# Altium integrated library Altium_WCAP-CSGP (rev19a).IntLib: 938 symbols (part 8 of 16)
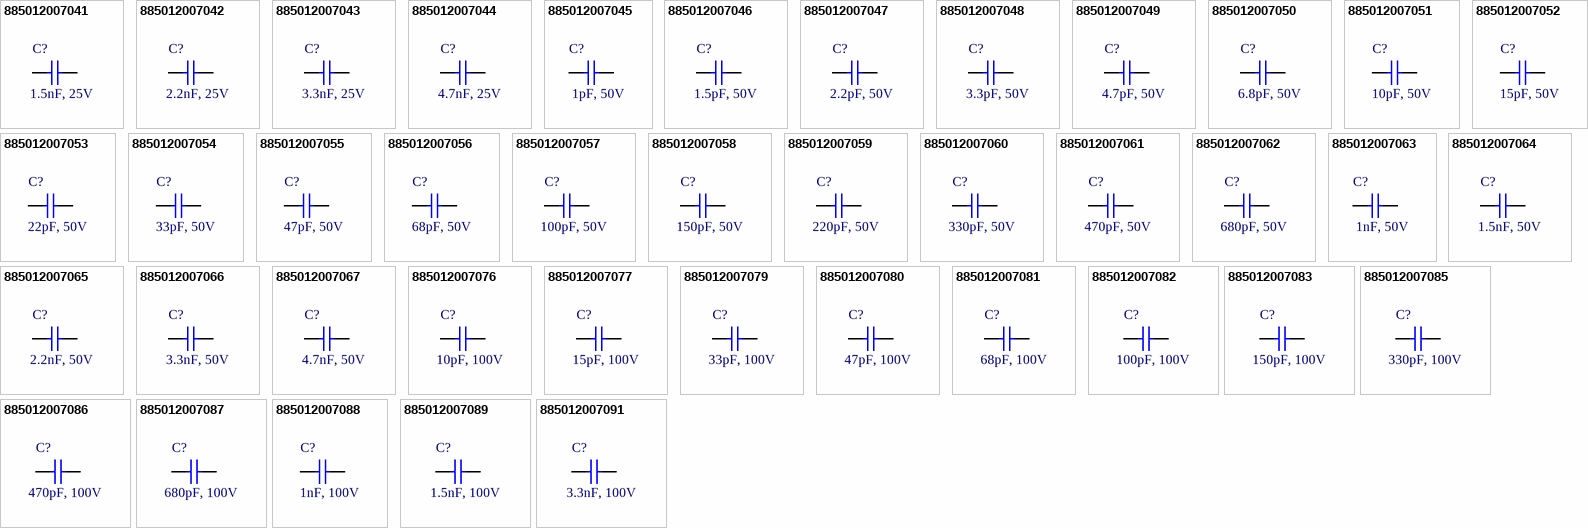
[diagram p34: symbols 885012007041 to 885012007091]

## 885012007056
designator C?, comment 68pF, 50V
WCAP-CSGP General Purpose Ceramic Capacitors, size 0805, 68pF, +/-5%, 50VDC; Part Number: 885012007056; Isolation Resistance: >=10GOhm; Ceramic Type: NP0; Dissipation Factor: Q>=1000; Technical Reference: NP00805680J050DFCT10000; ComponentLink1Description: Manufacturer; ComponentLink1URL: http://www.we-online.de; ComponentLink2Description: Datasheet; ComponentLink2URL: https://katalog.we-online.com/pbs/datasheet/885012007056.pdf; Operating Temperature: -55 to +125degC; Packaging: Tape and Reel; Publisher: Wurth Elektronik; Rated Voltage: 50VDC; Published Date: August 2019; Capacitance Tolerance: +/-5%; Height: 0.6mm +/-0.10mm; Mounting Technology: SMD; Size: 0805; Capacitance: 68pF
footprint WCAP-CSGP_0805_H=0.6mm_Wave
footprint WCAP-CSGP_0805_H=0.6mm_Reflow
pins: 1, 2

## 885012007057
designator C?, comment 100pF, 50V
WCAP-CSGP General Purpose Ceramic Capacitors, size 0805, 100pF, +/-5%, 50VDC; Part Number: 885012007057; Isolation Resistance: >=10GOhm; Ceramic Type: NP0; Dissipation Factor: Q>=1000; Technical Reference: NP00805101J050DFCT10000; ComponentLink1Description: Manufacturer; ComponentLink1URL: http://www.we-online.de; ComponentLink2Description: Datasheet; ComponentLink2URL: https://katalog.we-online.com/pbs/datasheet/885012007057.pdf; Operating Temperature: -55 to +125degC; Packaging: Tape and Reel; Publisher: Wurth Elektronik; Rated Voltage: 50VDC; Published Date: August 2019; Capacitance Tolerance: +/-5%; Height: 0.6mm +/-0.10mm; Mounting Technology: SMD; Size: 0805; Capacitance: 100pF
footprint WCAP-CSGP_0805_H=0.6mm_Wave
footprint WCAP-CSGP_0805_H=0.6mm_Reflow
pins: 1, 2

## 885012007058
designator C?, comment 150pF, 50V
WCAP-CSGP General Purpose Ceramic Capacitors, size 0805, 150pF, +/-5%, 50VDC; Part Number: 885012007058; Isolation Resistance: >=10GOhm; Ceramic Type: NP0; Dissipation Factor: Q>=1000; Technical Reference: NP00805151J050DFCT10000; ComponentLink1Description: Manufacturer; ComponentLink1URL: http://www.we-online.de; ComponentLink2Description: Datasheet; ComponentLink2URL: https://katalog.we-online.com/pbs/datasheet/885012007058.pdf; Operating Temperature: -55 to +125degC; Packaging: Tape and Reel; Publisher: Wurth Elektronik; Rated Voltage: 50VDC; Published Date: August 2019; Capacitance Tolerance: +/-5%; Height: 0.6mm +/-0.10mm; Mounting Technology: SMD; Size: 0805; Capacitance: 150pF
footprint WCAP-CSGP_0805_H=0.6mm_Wave
footprint WCAP-CSGP_0805_H=0.6mm_Reflow
pins: 1, 2

## 885012007059
designator C?, comment 220pF, 50V
WCAP-CSGP General Purpose Ceramic Capacitors, size 0805, 220pF, +/-5%, 50VDC; Part Number: 885012007059; Isolation Resistance: >=10GOhm; Ceramic Type: NP0; Dissipation Factor: Q>=1000; Technical Reference: NP00805221J050DFCT10000; ComponentLink1Description: Manufacturer; ComponentLink1URL: http://www.we-online.de; ComponentLink2Description: Datasheet; ComponentLink2URL: https://katalog.we-online.com/pbs/datasheet/885012007059.pdf; Operating Temperature: -55 to +125degC; Packaging: Tape and Reel; Publisher: Wurth Elektronik; Rated Voltage: 50VDC; Published Date: August 2019; Capacitance Tolerance: +/-5%; Height: 0.6mm +/-0.10mm; Mounting Technology: SMD; Size: 0805; Capacitance: 220pF
footprint WCAP-CSGP_0805_H=0.6mm_Wave
footprint WCAP-CSGP_0805_H=0.6mm_Reflow
pins: 1, 2

## 885012007060
designator C?, comment 330pF, 50V
WCAP-CSGP General Purpose Ceramic Capacitors, size 0805, 330pF, +/-5%, 50VDC; Part Number: 885012007060; Isolation Resistance: >=10GOhm; Ceramic Type: NP0; Dissipation Factor: Q>=1000; Technical Reference: NP00805331J050DFCT10000; ComponentLink1Description: Manufacturer; ComponentLink1URL: http://www.we-online.de; ComponentLink2Description: Datasheet; ComponentLink2URL: https://katalog.we-online.com/pbs/datasheet/885012007060.pdf; Operating Temperature: -55 to +125degC; Packaging: Tape and Reel; Publisher: Wurth Elektronik; Rated Voltage: 50VDC; Published Date: August 2019; Capacitance Tolerance: +/-5%; Height: 0.6mm +/-0.10mm; Mounting Technology: SMD; Size: 0805; Capacitance: 330pF
footprint WCAP-CSGP_0805_H=0.6mm_Wave
footprint WCAP-CSGP_0805_H=0.6mm_Reflow
pins: 1, 2

## 885012007061
designator C?, comment 470pF, 50V
WCAP-CSGP General Purpose Ceramic Capacitors, size 0805, 470pF, +/-5%, 50VDC; Part Number: 885012007061; Isolation Resistance: >=10GOhm; Ceramic Type: NP0; Dissipation Factor: Q>=1000; Technical Reference: NP00805471J050DFCT10000; ComponentLink1Description: Manufacturer; ComponentLink1URL: http://www.we-online.de; ComponentLink2Description: Datasheet; ComponentLink2URL: https://katalog.we-online.com/pbs/datasheet/885012007061.pdf; Operating Temperature: -55 to +125degC; Packaging: Tape and Reel; Publisher: Wurth Elektronik; Rated Voltage: 50VDC; Published Date: August 2019; Capacitance Tolerance: +/-5%; Height: 0.8mm +/-0.10mm; Mounting Technology: SMD; Size: 0805; Capacitance: 470pF
footprint WCAP-CSGP_0805_H=0.8mm_Wave
footprint WCAP-CSGP_0805_H=0.8mm_Reflow
pins: 1, 2

## 885012007062
designator C?, comment 680pF, 50V
WCAP-CSGP General Purpose Ceramic Capacitors, size 0805, 680pF, +/-5%, 50VDC; Part Number: 885012007062; Isolation Resistance: >=10GOhm; Ceramic Type: NP0; Dissipation Factor: Q>=1000; Technical Reference: NP00805681J050DFCT10000; ComponentLink1Description: Manufacturer; ComponentLink1URL: http://www.we-online.de; ComponentLink2Description: Datasheet; ComponentLink2URL: https://katalog.we-online.com/pbs/datasheet/885012007062.pdf; Operating Temperature: -55 to +125degC; Packaging: Tape and Reel; Publisher: Wurth Elektronik; Rated Voltage: 50VDC; Published Date: August 2019; Capacitance Tolerance: +/-5%; Height: 0.8mm +/-0.10mm; Mounting Technology: SMD; Size: 0805; Capacitance: 680pF
footprint WCAP-CSGP_0805_H=0.8mm_Wave
footprint WCAP-CSGP_0805_H=0.8mm_Reflow
pins: 1, 2

## 885012007063
designator C?, comment 1nF, 50V
WCAP-CSGP General Purpose Ceramic Capacitors, size 0805, 1nF, +/-5%, 50VDC; Part Number: 885012007063; Isolation Resistance: >=10GOhm; Ceramic Type: NP0; Dissipation Factor: Q>=1000; Technical Reference: NP00805102J050DFCT10000; ComponentLink1Description: Manufacturer; ComponentLink1URL: http://www.we-online.de; ComponentLink2Description: Datasheet; ComponentLink2URL: https://katalog.we-online.com/pbs/datasheet/885012007063.pdf; Operating Temperature: -55 to +125degC; Packaging: Tape and Reel; Publisher: Wurth Elektronik; Rated Voltage: 50VDC; Published Date: August 2019; Capacitance Tolerance: +/-5%; Height: 0.8mm +/-0.10mm; Mounting Technology: SMD; Size: 0805; Capacitance: 1nF
footprint WCAP-CSGP_0805_H=0.8mm_Wave
footprint WCAP-CSGP_0805_H=0.8mm_Reflow
pins: 1, 2

## 885012007064
designator C?, comment 1.5nF, 50V
WCAP-CSGP General Purpose Ceramic Capacitors, size 0805, 1.5nF, +/-5%, 50VDC; Part Number: 885012007064; Isolation Resistance: >=10GOhm; Ceramic Type: NP0; Dissipation Factor: Q>=1000; Technical Reference: NP00805152J050DFCT10000; ComponentLink1Description: Manufacturer; ComponentLink1URL: http://www.we-online.de; ComponentLink2Description: Datasheet; ComponentLink2URL: https://katalog.we-online.com/pbs/datasheet/885012007064.pdf; Operating Temperature: -55 to +125degC; Packaging: Tape and Reel; Publisher: Wurth Elektronik; Rated Voltage: 50VDC; Published Date: August 2019; Capacitance Tolerance: +/-5%; Height: 0.8mm +/-0.10mm; Mounting Technology: SMD; Size: 0805; Capacitance: 1.5nF
footprint WCAP-CSGP_0805_H=0.8mm_Wave
footprint WCAP-CSGP_0805_H=0.8mm_Reflow
pins: 1, 2

## 885012007065
designator C?, comment 2.2nF, 50V
WCAP-CSGP General Purpose Ceramic Capacitors, size 0805, 2.2nF, +/-5%, 50VDC; Part Number: 885012007065; Isolation Resistance: >=10GOhm; Ceramic Type: NP0; Dissipation Factor: Q>=1000; Technical Reference: NP00805222J050DFCT10000; ComponentLink1Description: Manufacturer; ComponentLink1URL: http://www.we-online.de; ComponentLink2Description: Datasheet; ComponentLink2URL: https://katalog.we-online.com/pbs/datasheet/885012007065.pdf; Operating Temperature: -55 to +125degC; Packaging: Tape and Reel; Publisher: Wurth Elektronik; Rated Voltage: 50VDC; Published Date: August 2019; Capacitance Tolerance: +/-5%; Height: 0.8mm +/-0.10mm; Mounting Technology: SMD; Size: 0805; Capacitance: 2.2nF
footprint WCAP-CSGP_0805_H=0.8mm_Wave
footprint WCAP-CSGP_0805_H=0.8mm_Reflow
pins: 1, 2

## 885012007066
designator C?, comment 3.3nF, 50V
WCAP-CSGP General Purpose Ceramic Capacitors, size 0805, 3.3nF, +/-5%, 50VDC; Part Number: 885012007066; Isolation Resistance: >=10GOhm; Ceramic Type: NP0; Dissipation Factor: Q>=1000; Technical Reference: NP00805332J050DFCT10000; ComponentLink1Description: Manufacturer; ComponentLink1URL: http://www.we-online.de; ComponentLink2Description: Datasheet; ComponentLink2URL: https://katalog.we-online.com/pbs/datasheet/885012007066.pdf; Operating Temperature: -55 to +125degC; Packaging: Tape and Reel; Publisher: Wurth Elektronik; Rated Voltage: 50VDC; Published Date: August 2019; Capacitance Tolerance: +/-5%; Height: 1.25mm +/-0.10mm; Mounting Technology: SMD; Size: 0805; Capacitance: 3.3nF
footprint WCAP-CSGP_0805_H=1.25mm
pins: 1, 2

## 885012007067
designator C?, comment 4.7nF, 50V
WCAP-CSGP General Purpose Ceramic Capacitors, size 0805, 4.7nF, +/-5%, 50VDC; Part Number: 885012007067; Isolation Resistance: >=10GOhm; Ceramic Type: NP0; Dissipation Factor: Q>=1000; Technical Reference: NP00805472J050DFCT10000; ComponentLink1Description: Manufacturer; ComponentLink1URL: http://www.we-online.de; ComponentLink2Description: Datasheet; ComponentLink2URL: https://katalog.we-online.com/pbs/datasheet/885012007067.pdf; Operating Temperature: -55 to +125degC; Packaging: Tape and Reel; Publisher: Wurth Elektronik; Rated Voltage: 50VDC; Published Date: August 2019; Capacitance Tolerance: +/-5%; Height: 1.25mm +/-0.10mm; Mounting Technology: SMD; Size: 0805; Capacitance: 4.7nF
footprint WCAP-CSGP_0805_H=1.25mm
pins: 1, 2

## 885012007076
designator C?, comment 10pF, 100V
WCAP-CSGP General Purpose Ceramic Capacitors, size 0805, 10pF, +/-5%, 100VDC; Part Number: 885012007076; Isolation Resistance: >=10GOhm; Ceramic Type: NP0; Dissipation Factor: Q>=400+20C; Technical Reference: NP00805100J100DFCT10000; ComponentLink1Description: Manufacturer; ComponentLink1URL: http://www.we-online.de; ComponentLink2Description: Datasheet; ComponentLink2URL: https://katalog.we-online.com/pbs/datasheet/885012007076.pdf; Operating Temperature: -55 to +125degC; Packaging: Tape and Reel; Publisher: Wurth Elektronik; Rated Voltage: 100VDC; Published Date: August 2019; Capacitance Tolerance: +/-5%; Height: 0.6mm +/-0.10mm; Mounting Technology: SMD; Size: 0805; Capacitance: 10pF
footprint WCAP-CSGP_0805_H=0.6mm_Wave
footprint WCAP-CSGP_0805_H=0.6mm_Reflow
pins: 1, 2

## 885012007077
designator C?, comment 15pF, 100V
WCAP-CSGP General Purpose Ceramic Capacitors, size 0805, 15pF, +/-5%, 100VDC; Part Number: 885012007077; Isolation Resistance: >=10GOhm; Ceramic Type: NP0; Dissipation Factor: Q>=400+20C; Technical Reference: NP00805150J100DFCT10000; ComponentLink1Description: Manufacturer; ComponentLink1URL: http://www.we-online.de; ComponentLink2Description: Datasheet; ComponentLink2URL: https://katalog.we-online.com/pbs/datasheet/885012007077.pdf; Operating Temperature: -55 to +125degC; Packaging: Tape and Reel; Publisher: Wurth Elektronik; Rated Voltage: 100VDC; Published Date: August 2019; Capacitance Tolerance: +/-5%; Height: 0.6mm +/-0.10mm; Mounting Technology: SMD; Size: 0805; Capacitance: 15pF
footprint WCAP-CSGP_0805_H=0.6mm_Wave
footprint WCAP-CSGP_0805_H=0.6mm_Reflow
pins: 1, 2

## 885012007079
designator C?, comment 33pF, 100V
WCAP-CSGP General Purpose Ceramic Capacitors, size 0805, 33pF, +/-5%, 100VDC; Part Number: 885012007079; Isolation Resistance: >=10GOhm; Ceramic Type: NP0; Dissipation Factor: Q>=1000; Technical Reference: NP00805330J100DFCT10000; ComponentLink1Description: Manufacturer; ComponentLink1URL: http://www.we-online.de; ComponentLink2Description: Datasheet; ComponentLink2URL: https://katalog.we-online.com/pbs/datasheet/885012007079.pdf; Operating Temperature: -55 to +125degC; Packaging: Tape and Reel; Publisher: Wurth Elektronik; Rated Voltage: 100VDC; Published Date: August 2019; Capacitance Tolerance: +/-5%; Height: 0.6mm +/-0.10mm; Mounting Technology: SMD; Size: 0805; Capacitance: 33pF
footprint WCAP-CSGP_0805_H=0.6mm_Wave
footprint WCAP-CSGP_0805_H=0.6mm_Reflow
pins: 1, 2

## 885012007080
designator C?, comment 47pF, 100V
WCAP-CSGP General Purpose Ceramic Capacitors, size 0805, 47pF, +/-5%, 100VDC; Part Number: 885012007080; Isolation Resistance: >=10GOhm; Ceramic Type: NP0; Dissipation Factor: Q>=1000; Technical Reference: NP00805470J100DFCT10000; ComponentLink1Description: Manufacturer; ComponentLink1URL: http://www.we-online.de; ComponentLink2Description: Datasheet; ComponentLink2URL: https://katalog.we-online.com/pbs/datasheet/885012007080.pdf; Operating Temperature: -55 to +125degC; Packaging: Tape and Reel; Publisher: Wurth Elektronik; Rated Voltage: 100VDC; Published Date: August 2019; Capacitance Tolerance: +/-5%; Height: 0.6mm +/-0.10mm; Mounting Technology: SMD; Size: 0805; Capacitance: 47pF
footprint WCAP-CSGP_0805_H=0.6mm_Wave
footprint WCAP-CSGP_0805_H=0.6mm_Reflow
pins: 1, 2

## 885012007081
designator C?, comment 68pF, 100V
WCAP-CSGP General Purpose Ceramic Capacitors, size 0805, 68pF, +/-5%, 100VDC; Part Number: 885012007081; Isolation Resistance: >=10GOhm; Ceramic Type: NP0; Dissipation Factor: Q>=1000; Technical Reference: NP00805680J100DFCT10000; ComponentLink1Description: Manufacturer; ComponentLink1URL: http://www.we-online.de; ComponentLink2Description: Datasheet; ComponentLink2URL: https://katalog.we-online.com/pbs/datasheet/885012007081.pdf; Operating Temperature: -55 to +125degC; Packaging: Tape and Reel; Publisher: Wurth Elektronik; Rated Voltage: 100VDC; Published Date: August 2019; Capacitance Tolerance: +/-5%; Height: 0.6mm +/-0.10mm; Mounting Technology: SMD; Size: 0805; Capacitance: 68pF
footprint WCAP-CSGP_0805_H=0.6mm_Wave
footprint WCAP-CSGP_0805_H=0.6mm_Reflow
pins: 1, 2

## 885012007082
designator C?, comment 100pF, 100V
WCAP-CSGP General Purpose Ceramic Capacitors, size 0805, 100pF, +/-5%, 100VDC; Part Number: 885012007082; Isolation Resistance: >=10GOhm; Ceramic Type: NP0; Dissipation Factor: Q>=1000; Technical Reference: NP00805101J100DFCT10000; ComponentLink1Description: Manufacturer; ComponentLink1URL: http://www.we-online.de; ComponentLink2Description: Datasheet; ComponentLink2URL: https://katalog.we-online.com/pbs/datasheet/885012007082.pdf; Operating Temperature: -55 to +125degC; Packaging: Tape and Reel; Publisher: Wurth Elektronik; Rated Voltage: 100VDC; Published Date: August 2019; Capacitance Tolerance: +/-5%; Height: 0.6mm +/-0.10mm; Mounting Technology: SMD; Size: 0805; Capacitance: 100pF
footprint WCAP-CSGP_0805_H=0.6mm_Wave
footprint WCAP-CSGP_0805_H=0.6mm_Reflow
pins: 1, 2

## 885012007083
designator C?, comment 150pF, 100V
WCAP-CSGP General Purpose Ceramic Capacitors, size 0805, 150pF, +/-5%, 100VDC; Part Number: 885012007083; Isolation Resistance: >=10GOhm; Ceramic Type: NP0; Dissipation Factor: Q>=1000; Technical Reference: NP00805151J100DFCT10000; ComponentLink1Description: Manufacturer; ComponentLink1URL: http://www.we-online.de; ComponentLink2Description: Datasheet; ComponentLink2URL: https://katalog.we-online.com/pbs/datasheet/885012007083.pdf; Operating Temperature: -55 to +125degC; Packaging: Tape and Reel; Publisher: Wurth Elektronik; Rated Voltage: 100VDC; Published Date: August 2019; Capacitance Tolerance: +/-5%; Height: 0.6mm +/-0.10mm; Mounting Technology: SMD; Size: 0805; Capacitance: 150pF
footprint WCAP-CSGP_0805_H=0.6mm_Wave
footprint WCAP-CSGP_0805_H=0.6mm_Reflow
pins: 1, 2

## 885012007085
designator C?, comment 330pF, 100V
WCAP-CSGP General Purpose Ceramic Capacitors, size 0805, 330pF, +/-5%, 100VDC; Part Number: 885012007085; Isolation Resistance: >=10GOhm; Ceramic Type: NP0; Dissipation Factor: Q>=1000; Technical Reference: NP00805331J100DFCT10000; ComponentLink1Description: Manufacturer; ComponentLink1URL: http://www.we-online.de; ComponentLink2Description: Datasheet; ComponentLink2URL: https://katalog.we-online.com/pbs/datasheet/885012007085.pdf; Operating Temperature: -55 to +125degC; Packaging: Tape and Reel; Publisher: Wurth Elektronik; Rated Voltage: 100VDC; Published Date: August 2019; Capacitance Tolerance: +/-5%; Height: 0.6mm +/-0.10mm; Mounting Technology: SMD; Size: 0805; Capacitance: 330pF
footprint WCAP-CSGP_0805_H=0.6mm_Wave
footprint WCAP-CSGP_0805_H=0.6mm_Reflow
pins: 1, 2

## 885012007086
designator C?, comment 470pF, 100V
WCAP-CSGP General Purpose Ceramic Capacitors, size 0805, 470pF, +/-5%, 100VDC; Part Number: 885012007086; Isolation Resistance: >=10GOhm; Ceramic Type: NP0; Dissipation Factor: Q>=1000; Technical Reference: NP00805471J100DFCT10000; ComponentLink1Description: Manufacturer; ComponentLink1URL: http://www.we-online.de; ComponentLink2Description: Datasheet; ComponentLink2URL: https://katalog.we-online.com/pbs/datasheet/885012007086.pdf; Operating Temperature: -55 to +125degC; Packaging: Tape and Reel; Publisher: Wurth Elektronik; Rated Voltage: 100VDC; Published Date: August 2019; Capacitance Tolerance: +/-5%; Height: 0.8mm +/-0.10mm; Mounting Technology: SMD; Size: 0805; Capacitance: 470pF
footprint WCAP-CSGP_0805_H=0.8mm_Wave
footprint WCAP-CSGP_0805_H=0.8mm_Reflow
pins: 1, 2

## 885012007087
designator C?, comment 680pF, 100V
WCAP-CSGP General Purpose Ceramic Capacitors, size 0805, 680pF, +/-5%, 100VDC; Part Number: 885012007087; Isolation Resistance: >=10GOhm; Ceramic Type: NP0; Dissipation Factor: Q>=1000; Technical Reference: NP00805681J100DFCT10000; ComponentLink1Description: Manufacturer; ComponentLink1URL: http://www.we-online.de; ComponentLink2Description: Datasheet; ComponentLink2URL: https://katalog.we-online.com/pbs/datasheet/885012007087.pdf; Operating Temperature: -55 to +125degC; Packaging: Tape and Reel; Publisher: Wurth Elektronik; Rated Voltage: 100VDC; Published Date: August 2019; Capacitance Tolerance: +/-5%; Height: 0.8mm +/-0.10mm; Mounting Technology: SMD; Size: 0805; Capacitance: 680pF
footprint WCAP-CSGP_0805_H=0.8mm_Wave
footprint WCAP-CSGP_0805_H=0.8mm_Reflow
pins: 1, 2

## 885012007088
designator C?, comment 1nF, 100V
WCAP-CSGP General Purpose Ceramic Capacitors, size 0805, 1nF, +/-5%, 100VDC; Part Number: 885012007088; Isolation Resistance: >=10GOhm; Ceramic Type: NP0; Dissipation Factor: Q>=1000; Technical Reference: NP00805102J100DFCT10000; ComponentLink1Description: Manufacturer; ComponentLink1URL: http://www.we-online.de; ComponentLink2Description: Datasheet; ComponentLink2URL: https://katalog.we-online.com/pbs/datasheet/885012007088.pdf; Operating Temperature: -55 to +125degC; Packaging: Tape and Reel; Publisher: Wurth Elektronik; Rated Voltage: 100VDC; Published Date: August 2019; Capacitance Tolerance: +/-5%; Height: 0.8mm +/-0.10mm; Mounting Technology: SMD; Size: 0805; Capacitance: 1nF
footprint WCAP-CSGP_0805_H=0.8mm_Wave
footprint WCAP-CSGP_0805_H=0.8mm_Reflow
pins: 1, 2

## 885012007089
designator C?, comment 1.5nF, 100V
WCAP-CSGP General Purpose Ceramic Capacitors, size 0805, 1.5nF, +/-5%, 100VDC; Part Number: 885012007089; Isolation Resistance: >=10GOhm; Ceramic Type: NP0; Dissipation Factor: Q>=1000; Technical Reference: NP00805152J100DFCT10000; ComponentLink1Description: Manufacturer; ComponentLink1URL: http://www.we-online.de; ComponentLink2Description: Datasheet; ComponentLink2URL: https://katalog.we-online.com/pbs/datasheet/885012007089.pdf; Operating Temperature: -55 to +125degC; Packaging: Tape and Reel; Publisher: Wurth Elektronik; Rated Voltage: 100VDC; Published Date: August 2019; Capacitance Tolerance: +/-5%; Height: 0.8mm +/-0.10mm; Mounting Technology: SMD; Size: 0805; Capacitance: 1.5nF
footprint WCAP-CSGP_0805_H=0.8mm_Wave
footprint WCAP-CSGP_0805_H=0.8mm_Reflow
pins: 1, 2

## 885012007091
designator C?, comment 3.3nF, 100V
WCAP-CSGP General Purpose Ceramic Capacitors, size 0805, 3.3nF, +/-5%, 100VDC; Part Number: 885012007091; Isolation Resistance: >=10GOhm; Ceramic Type: NP0; Dissipation Factor: Q>=1000; Technical Reference: NP00805332J100DFCT10000; ComponentLink1Description: Manufacturer; ComponentLink1URL: http://www.we-online.de; ComponentLink2Description: Datasheet; ComponentLink2URL: https://katalog.we-online.com/pbs/datasheet/885012007091.pdf; Operating Temperature: -55 to +125degC; Packaging: Tape and Reel; Publisher: Wurth Elektronik; Rated Voltage: 100VDC; Published Date: August 2019; Capacitance Tolerance: +/-5%; Height: 1.25mm +/-0.10mm; Mounting Technology: SMD; Size: 0805; Capacitance: 3.3nF
footprint WCAP-CSGP_0805_H=1.25mm
pins: 1, 2

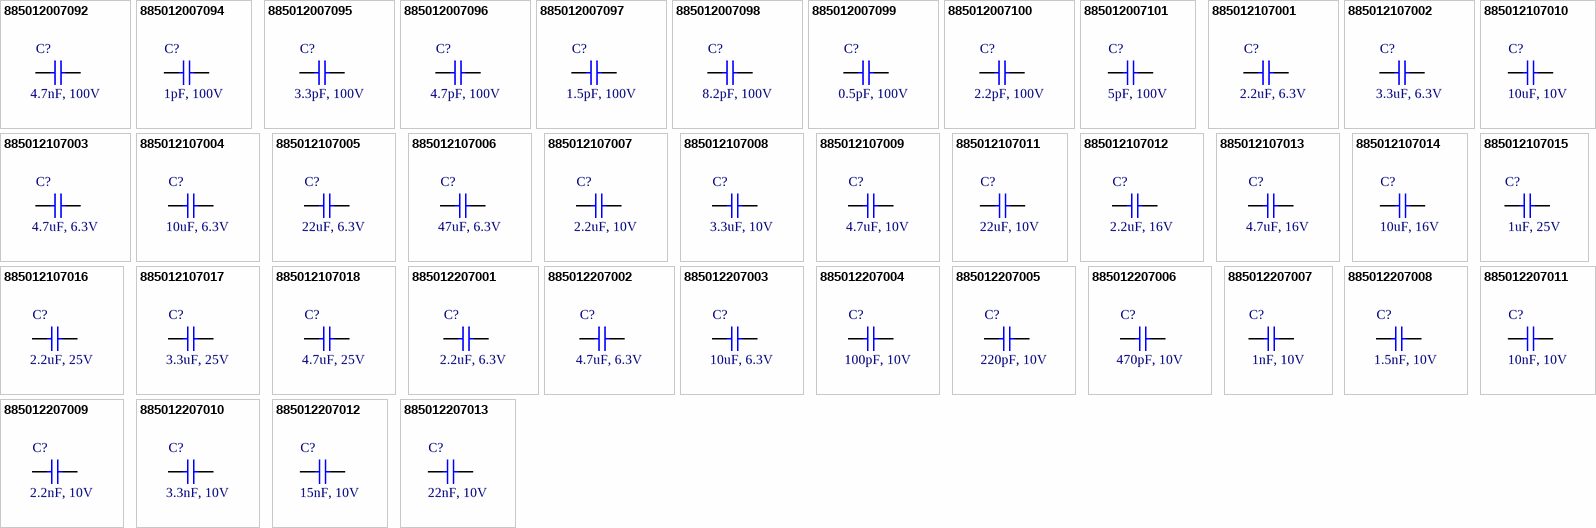
[diagram p13: symbols 885012007092 to 885012207013]

## 885012007092
designator C?, comment 4.7nF, 100V
WCAP-CSGP General Purpose Ceramic Capacitors, size 0805, 4.7nF, +/-5%, 100VDC; Part Number: 885012007092; Isolation Resistance: >=10GOhm; Ceramic Type: NP0; Dissipation Factor: Q>=1000; Technical Reference: NP00805472J100DFCT10000; ComponentLink1Description: Manufacturer; ComponentLink1URL: http://www.we-online.de; ComponentLink2Description: Datasheet; ComponentLink2URL: https://katalog.we-online.com/pbs/datasheet/885012007092.pdf; Operating Temperature: -55 to +125degC; Packaging: Tape and Reel; Publisher: Wurth Elektronik; Rated Voltage: 100VDC; Published Date: August 2019; Capacitance Tolerance: +/-5%; Height: 1.25mm +/-0.10mm; Mounting Technology: SMD; Size: 0805; Capacitance: 4.7nF
footprint WCAP-CSGP_0805_H=1.25mm
pins: 1, 2

## 885012007094
designator C?, comment 1pF, 100V
WCAP-CSGP General Purpose Ceramic Capacitors, size 0805, 1pF, +/-0.25pF, 100VDC; Part Number: 885012007094; Isolation Resistance: >=10GOhm; Ceramic Type: NP0; Dissipation Factor: Q>=400+20C; Technical Reference: NP008051R0C100DFCT10000; ComponentLink1Description: Manufacturer; ComponentLink1URL: http://www.we-online.de; ComponentLink2Description: Datasheet; ComponentLink2URL: https://katalog.we-online.com/pbs/datasheet/885012007094.pdf; Operating Temperature: -55 to +125degC; Packaging: Tape and Reel; Publisher: Wurth Elektronik; Rated Voltage: 100VDC; Published Date: August 2019; Capacitance Tolerance: +/-0.25pF; Height: 0.6mm +/-0.10mm; Mounting Technology: SMD; Size: 0805; Capacitance: 1pF
footprint WCAP-CSGP_0805_H=0.6mm_Wave
footprint WCAP-CSGP_0805_H=0.6mm_Reflow
pins: 1, 2

## 885012007095
designator C?, comment 3.3pF, 100V
WCAP-CSGP General Purpose Ceramic Capacitors, size 0805, 3.3pF, +/-0.25pF, 100VDC; Part Number: 885012007095; Isolation Resistance: >=10GOhm; Ceramic Type: NP0; Dissipation Factor: Q>=400+20C; Technical Reference: NP008053R3C100DFCT10000; ComponentLink1Description: Manufacturer; ComponentLink1URL: http://www.we-online.de; ComponentLink2Description: Datasheet; ComponentLink2URL: https://katalog.we-online.com/pbs/datasheet/885012007095.pdf; Operating Temperature: -55 to +125degC; Packaging: Tape and Reel; Publisher: Wurth Elektronik; Rated Voltage: 100VDC; Published Date: August 2019; Capacitance Tolerance: +/-0.25pF; Height: 0.6mm +/-0.10mm; Mounting Technology: SMD; Size: 0805; Capacitance: 3.3pF
footprint WCAP-CSGP_0805_H=0.6mm_Wave
footprint WCAP-CSGP_0805_H=0.6mm_Reflow
pins: 1, 2

## 885012007096
designator C?, comment 4.7pF, 100V
WCAP-CSGP General Purpose Ceramic Capacitors, size 0805, 4.7pF, +/-0.25pF, 100VDC; Part Number: 885012007096; Isolation Resistance: >=10GOhm; Ceramic Type: NP0; Dissipation Factor: Q>=400+20C; Technical Reference: NP008054R7C100DFCT10000; ComponentLink1Description: Manufacturer; ComponentLink1URL: http://www.we-online.de; ComponentLink2Description: Datasheet; ComponentLink2URL: https://katalog.we-online.com/pbs/datasheet/885012007096.pdf; Operating Temperature: -55 to +125degC; Packaging: Tape and Reel; Publisher: Wurth Elektronik; Rated Voltage: 100VDC; Published Date: August 2019; Capacitance Tolerance: +/-0.25pF; Height: 0.6mm +/-0.10mm; Mounting Technology: SMD; Size: 0805; Capacitance: 4.7pF
footprint WCAP-CSGP_0805_H=0.6mm_Wave
footprint WCAP-CSGP_0805_H=0.6mm_Reflow
pins: 1, 2

## 885012007097
designator C?, comment 1.5pF, 100V
WCAP-CSGP General Purpose Ceramic Capacitors, size 0805, 1.5pF, +/-0.25pF, 100VDC; Part Number: 885012007097; Isolation Resistance: >=10GOhm; Ceramic Type: NP0; Dissipation Factor: Q>=400+20C; Technical Reference: NP008051R5C100DFCT10000; ComponentLink1Description: Manufacturer; ComponentLink1URL: http://www.we-online.de; ComponentLink2Description: Datasheet; ComponentLink2URL: https://katalog.we-online.com/pbs/datasheet/885012007097.pdf; Operating Temperature: -55 to +125degC; Packaging: Tape and Reel; Publisher: Wurth Elektronik; Rated Voltage: 100VDC; Published Date: August 2019; Capacitance Tolerance: +/-0.25pF; Height: 0.6mm +/-0.10mm; Mounting Technology: SMD; Size: 0805; Capacitance: 1.5pF
footprint WCAP-CSGP_0805_H=0.6mm_Wave
footprint WCAP-CSGP_0805_H=0.6mm_Reflow
pins: 1, 2

## 885012007098
designator C?, comment 8.2pF, 100V
WCAP-CSGP General Purpose Ceramic Capacitors, size 0805, 8.2pF, +/-0.5pF, 100VDC; Part Number: 885012007098; Isolation Resistance: >=10GOhm; Ceramic Type: NP0; Dissipation Factor: Q>=400+20C; Technical Reference: NP008058R2D100DFCT10000; ComponentLink1Description: Manufacturer; ComponentLink1URL: http://www.we-online.de; ComponentLink2Description: Datasheet; ComponentLink2URL: https://katalog.we-online.com/pbs/datasheet/885012007098.pdf; Operating Temperature: -55 to +125degC; Packaging: Tape and Reel; Publisher: Wurth Elektronik; Rated Voltage: 100VDC; Published Date: August 2019; Capacitance Tolerance: +/-0.5pF; Height: 0.6mm +/-0.10mm; Mounting Technology: SMD; Size: 0805; Capacitance: 8.2pF
footprint WCAP-CSGP_0805_H=0.6mm_Wave
footprint WCAP-CSGP_0805_H=0.6mm_Reflow
pins: 1, 2

## 885012007099
designator C?, comment 0.5pF, 100V
WCAP-CSGP General Purpose Ceramic Capacitors, size 0805, 0.5pF, +/-0.25pF, 100VDC; Part Number: 885012007099; Isolation Resistance: >=10GOhm; Ceramic Type: NP0; Dissipation Factor: Q>=400+20C; Technical Reference: NP008050R5C100DFCT10000; ComponentLink1Description: Manufacturer; ComponentLink1URL: http://www.we-online.de; ComponentLink2Description: Datasheet; ComponentLink2URL: https://katalog.we-online.com/pbs/datasheet/885012007099.pdf; Operating Temperature: -55 to +125degC; Packaging: Tape and Reel; Publisher: Wurth Elektronik; Rated Voltage: 100VDC; Published Date: August 2019; Capacitance Tolerance: +/-0.25pF; Height: 0.6mm +/-0.10mm; Mounting Technology: SMD; Size: 0805; Capacitance: 0.5pF
footprint WCAP-CSGP_0805_H=0.6mm_Wave
footprint WCAP-CSGP_0805_H=0.6mm_Reflow
pins: 1, 2

## 885012007100
designator C?, comment 2.2pF, 100V
WCAP-CSGP General Purpose Ceramic Capacitors, size 0805, 2.2pF, +/-0.25pF, 100VDC; Part Number: 885012007100; Isolation Resistance: >=10GOhm; Ceramic Type: NP0; Dissipation Factor: Q>=400+20C; Technical Reference: NP008052R2C100DFCT10000; ComponentLink1Description: Manufacturer; ComponentLink1URL: http://www.we-online.de; ComponentLink2Description: Datasheet; ComponentLink2URL: https://katalog.we-online.com/pbs/datasheet/885012007100.pdf; Operating Temperature: -55 to +125degC; Packaging: Tape and Reel; Publisher: Wurth Elektronik; Rated Voltage: 100VDC; Published Date: August 2019; Capacitance Tolerance: +/-0.25pF; Height: 0.6mm +/-0.10mm; Mounting Technology: SMD; Size: 0805; Capacitance: 2.2pF
footprint WCAP-CSGP_0805_H=0.6mm_Wave
footprint WCAP-CSGP_0805_H=0.6mm_Reflow
pins: 1, 2

## 885012007101
designator C?, comment 5pF, 100V
WCAP-CSGP General Purpose Ceramic Capacitors, size 0805, 5pF, +/-0.25pF, 100VDC; Part Number: 885012007101; Isolation Resistance: >=10GOhm; Ceramic Type: NP0; Dissipation Factor: Q>=400+20C; Technical Reference: NP008055R0C100DFCT10000; ComponentLink1Description: Manufacturer; ComponentLink1URL: http://www.we-online.de; ComponentLink2Description: Datasheet; ComponentLink2URL: https://katalog.we-online.com/pbs/datasheet/885012007101.pdf; Operating Temperature: -55 to +125degC; Packaging: Tape and Reel; Publisher: Wurth Elektronik; Rated Voltage: 100VDC; Published Date: August 2019; Capacitance Tolerance: +/-0.25pF; Height: 0.6mm +/-0.10mm; Mounting Technology: SMD; Size: 0805; Capacitance: 5pF
footprint WCAP-CSGP_0805_H=0.6mm_Wave
footprint WCAP-CSGP_0805_H=0.6mm_Reflow
pins: 1, 2

## 885012107001
designator C?, comment 2.2uF, 6.3V
WCAP-CSGP General Purpose Ceramic Capacitors, size 0805, 2.2uF, +/-20%, 6.3VDC; Part Number: 885012107001; Isolation Resistance: >=0.05GOhm; Ceramic Type: X5R; Technical Reference: X5R0805225M6R3DFCT10000; ComponentLink1Description: Manufacturer; ComponentLink1URL: http://www.we-online.de; ComponentLink2Description: Datasheet; ComponentLink2URL: https://katalog.we-online.com/pbs/datasheet/885012107001.pdf; Operating Temperature: -55 to +85degC; Packaging: Tape and Reel; Publisher: Wurth Elektronik; Rated Voltage: 6.3VDC; Published Date: August 2019; Capacitance Tolerance: +/-20%; Dissipation Factor: =<10%; Height: 1.25mm +/-0.20mm; Mounting Technology: SMD; Size: 0805; Capacitance: 2.2uF
footprint WCAP-CSGP_0805_H=1.25mm
pins: 1, 2

## 885012107002
designator C?, comment 3.3uF, 6.3V
WCAP-CSGP General Purpose Ceramic Capacitors, size 0805, 3.3uF, +/-20%, 6.3VDC; Part Number: 885012107002; Isolation Resistance: >=0.03GOhm; Ceramic Type: X5R; Technical Reference: X5R0805335M6R3DFCT10000; ComponentLink1Description: Manufacturer; ComponentLink1URL: http://www.we-online.de; ComponentLink2Description: Datasheet; ComponentLink2URL: https://katalog.we-online.com/pbs/datasheet/885012107002.pdf; Operating Temperature: -55 to +85degC; Packaging: Tape and Reel; Publisher: Wurth Elektronik; Rated Voltage: 6.3VDC; Published Date: August 2019; Capacitance Tolerance: +/-20%; Dissipation Factor: =<10%; Height: 1.25mm +/-0.20mm; Mounting Technology: SMD; Size: 0805; Capacitance: 3.3uF
footprint WCAP-CSGP_0805_H=1.25mm
pins: 1, 2

## 885012107003
designator C?, comment 4.7uF, 6.3V
WCAP-CSGP General Purpose Ceramic Capacitors, size 0805, 4.7uF, +/-20%, 6.3VDC; Part Number: 885012107003; Isolation Resistance: >=0.02GOhm; Ceramic Type: X5R; Technical Reference: X5R0805475M6R3DFCT10000; ComponentLink1Description: Manufacturer; ComponentLink1URL: http://www.we-online.de; ComponentLink2Description: Datasheet; ComponentLink2URL: https://katalog.we-online.com/pbs/datasheet/885012107003.pdf; Operating Temperature: -55 to +85degC; Packaging: Tape and Reel; Publisher: Wurth Elektronik; Rated Voltage: 6.3VDC; Published Date: August 2019; Capacitance Tolerance: +/-20%; Dissipation Factor: =<15%; Height: 1.25mm +/-0.20mm; Mounting Technology: SMD; Size: 0805; Capacitance: 4.7uF
footprint WCAP-CSGP_0805_H=1.25mm
pins: 1, 2

## 885012107004
designator C?, comment 10uF, 6.3V
WCAP-CSGP General Purpose Ceramic Capacitors, size 0805, 10uF, +/-20%, 6.3VDC; Part Number: 885012107004; Isolation Resistance: >=0.01GOhm; Ceramic Type: X5R; Technical Reference: X5R0805106M6R3DFCT10000; ComponentLink1Description: Manufacturer; ComponentLink1URL: http://www.we-online.de; ComponentLink2Description: Datasheet; ComponentLink2URL: https://katalog.we-online.com/pbs/datasheet/885012107004.pdf; Operating Temperature: -55 to +85degC; Packaging: Tape and Reel; Publisher: Wurth Elektronik; Rated Voltage: 6.3VDC; Published Date: August 2019; Capacitance Tolerance: +/-20%; Dissipation Factor: =<15%; Height: 1.25mm +/-0.20mm; Mounting Technology: SMD; Size: 0805; Capacitance: 10uF
footprint WCAP-CSGP_0805_H=1.25mm
pins: 1, 2

## 885012107005
designator C?, comment 22uF, 6.3V
WCAP-CSGP General Purpose Ceramic Capacitors, size 0805, 22uF, +/-20%, 6.3VDC; Part Number: 885012107005; Isolation Resistance: >=0.005GOhm; Ceramic Type: X5R; Technical Reference: X5R0805226M6R3DFCT10000; ComponentLink1Description: Manufacturer; ComponentLink1URL: http://www.we-online.de; ComponentLink2Description: Datasheet; ComponentLink2URL: https://katalog.we-online.com/pbs/datasheet/885012107005.pdf; Operating Temperature: -55 to +85degC; Packaging: Tape and Reel; Publisher: Wurth Elektronik; Rated Voltage: 6.3VDC; Published Date: August 2019; Capacitance Tolerance: +/-20%; Dissipation Factor: =<10%; Height: 1.25mm +0.15/-0.05 mm; Mounting Technology: SMD; Size: 0805; Capacitance: 22uF
footprint WCAP-CSGP_0805_H=1.25mm
pins: 1, 2

## 885012107006
designator C?, comment 47uF, 6.3V
WCAP-CSGP General Purpose Ceramic Capacitors, size 0805, 47uF, +/-20%, 6.3VDC; Part Number: 885012107006; Isolation Resistance: >=0.002GOhm; Ceramic Type: X5R; Technical Reference: X5R0805476M6R3DFCT10000; ComponentLink1Description: Manufacturer; ComponentLink1URL: http://www.we-online.de; ComponentLink2Description: Datasheet; ComponentLink2URL: https://katalog.we-online.com/pbs/datasheet/885012107006.pdf; Operating Temperature: -55 to +85degC; Packaging: Tape and Reel; Publisher: Wurth Elektronik; Rated Voltage: 6.3VDC; Published Date: August 2019; Capacitance Tolerance: +/-20%; Dissipation Factor: =<10%; Height: 1.25mm +0.20/-0.00mm; Mounting Technology: SMD; Size: 0805; Capacitance: 47uF
footprint WCAP-CSGP_0805_H=1.25mm
pins: 1, 2

## 885012107007
designator C?, comment 2.2uF, 10V
WCAP-CSGP General Purpose Ceramic Capacitors, size 0805, 2.2uF, +/-20%, 10VDC; Part Number: 885012107007; Isolation Resistance: >=0.05GOhm; Ceramic Type: X5R; Technical Reference: X5R0805225M010DFCT10000; ComponentLink1Description: Manufacturer; ComponentLink1URL: http://www.we-online.de; ComponentLink2Description: Datasheet; ComponentLink2URL: https://katalog.we-online.com/pbs/datasheet/885012107007.pdf; Operating Temperature: -55 to +85degC; Packaging: Tape and Reel; Publisher: Wurth Elektronik; Rated Voltage: 10VDC; Published Date: August 2019; Capacitance Tolerance: +/-20%; Dissipation Factor: =<10%; Height: 1.25mm +/-0.20mm; Mounting Technology: SMD; Size: 0805; Capacitance: 2.2uF
footprint WCAP-CSGP_0805_H=1.25mm
pins: 1, 2

## 885012107008
designator C?, comment 3.3uF, 10V
WCAP-CSGP General Purpose Ceramic Capacitors, size 0805, 3.3uF, +/-20%, 10VDC; Part Number: 885012107008; Isolation Resistance: >=0.03GOhm; Ceramic Type: X5R; Technical Reference: X5R0805335M010DFCT10000; ComponentLink1Description: Manufacturer; ComponentLink1URL: http://www.we-online.de; ComponentLink2Description: Datasheet; ComponentLink2URL: https://katalog.we-online.com/pbs/datasheet/885012107008.pdf; Operating Temperature: -55 to +85degC; Packaging: Tape and Reel; Publisher: Wurth Elektronik; Rated Voltage: 10VDC; Published Date: August 2019; Capacitance Tolerance: +/-20%; Dissipation Factor: =<10%; Height: 1.25mm +/-0.20mm; Mounting Technology: SMD; Size: 0805; Capacitance: 3.3uF
footprint WCAP-CSGP_0805_H=1.25mm
pins: 1, 2

## 885012107009
designator C?, comment 4.7uF, 10V
WCAP-CSGP General Purpose Ceramic Capacitors, size 0805, 4.7uF, +/-20%, 10VDC; Part Number: 885012107009; Isolation Resistance: >=0.02GOhm; Ceramic Type: X5R; Technical Reference: X5R0805475M010DFCT10000; ComponentLink1Description: Manufacturer; ComponentLink1URL: http://www.we-online.de; ComponentLink2Description: Datasheet; ComponentLink2URL: https://katalog.we-online.com/pbs/datasheet/885012107009.pdf; Operating Temperature: -55 to +85degC; Packaging: Tape and Reel; Publisher: Wurth Elektronik; Rated Voltage: 10VDC; Published Date: August 2019; Capacitance Tolerance: +/-20%; Dissipation Factor: =<10%; Height: 1.25mm +/-0.20mm; Mounting Technology: SMD; Size: 0805; Capacitance: 4.7uF
footprint WCAP-CSGP_0805_H=1.25mm
pins: 1, 2

## 885012107010
designator C?, comment 10uF, 10V
WCAP-CSGP General Purpose Ceramic Capacitors, size 0805, 10uF, +/-20%, 10VDC; Part Number: 885012107010; Isolation Resistance: >=0.01GOhm; Ceramic Type: X5R; Technical Reference: X5R0805106M010DFCT10000; ComponentLink1Description: Manufacturer; ComponentLink1URL: http://www.we-online.de; ComponentLink2Description: Datasheet; ComponentLink2URL: https://katalog.we-online.com/pbs/datasheet/885012107010.pdf; Operating Temperature: -55 to +85degC; Packaging: Tape and Reel; Publisher: Wurth Elektronik; Rated Voltage: 10VDC; Published Date: August 2019; Capacitance Tolerance: +/-20%; Dissipation Factor: =<10%; Height: 1.25mm +/-0.20mm; Mounting Technology: SMD; Size: 0805; Capacitance: 10uF
footprint WCAP-CSGP_0805_H=1.25mm
pins: 1, 2

## 885012107011
designator C?, comment 22uF, 10V
WCAP-CSGP General Purpose Ceramic Capacitors, size 0805, 22uF, +/-20%, 10VDC; Part Number: 885012107011; Isolation Resistance: >=0.005GOhm; Ceramic Type: X5R; Technical Reference: X5R0805226M010DFCT10000; ComponentLink1Description: Manufacturer; ComponentLink1URL: http://www.we-online.de; ComponentLink2Description: Datasheet; ComponentLink2URL: https://katalog.we-online.com/pbs/datasheet/885012107011.pdf; Operating Temperature: -55 to +85degC; Packaging: Tape and Reel; Publisher: Wurth Elektronik; Rated Voltage: 10VDC; Published Date: August 2019; Capacitance Tolerance: +/-20%; Dissipation Factor: =<10%; Height: 1.25mm +0.20/-0.00mm; Mounting Technology: SMD; Size: 0805; Capacitance: 22uF
footprint WCAP-CSGP_0805_H=1.25mm
pins: 1, 2

## 885012107012
designator C?, comment 2.2uF, 16V
WCAP-CSGP General Purpose Ceramic Capacitors, size 0805, 2.2uF, +/-20%, 16VDC; Part Number: 885012107012; Isolation Resistance: >=0.05GOhm; Ceramic Type: X5R; Technical Reference: X5R0805225M016DFCT10000; ComponentLink1Description: Manufacturer; ComponentLink1URL: http://www.we-online.de; ComponentLink2Description: Datasheet; ComponentLink2URL: https://katalog.we-online.com/pbs/datasheet/885012107012.pdf; Operating Temperature: -55 to +85degC; Packaging: Tape and Reel; Publisher: Wurth Elektronik; Rated Voltage: 16VDC; Published Date: August 2019; Capacitance Tolerance: +/-20%; Dissipation Factor: =<10%; Height: 1.25mm +/-0.20mm; Mounting Technology: SMD; Size: 0805; Capacitance: 2.2uF
footprint WCAP-CSGP_0805_H=1.25mm
pins: 1, 2

## 885012107013
designator C?, comment 4.7uF, 16V
WCAP-CSGP General Purpose Ceramic Capacitors, size 0805, 4.7uF, +/-20%, 16VDC; Part Number: 885012107013; Isolation Resistance: >=0.02GOhm; Ceramic Type: X5R; Technical Reference: X5R0805475M016DFCT10000; ComponentLink1Description: Manufacturer; ComponentLink1URL: http://www.we-online.de; ComponentLink2Description: Datasheet; ComponentLink2URL: https://katalog.we-online.com/pbs/datasheet/885012107013.pdf; Operating Temperature: -55 to +85degC; Packaging: Tape and Reel; Publisher: Wurth Elektronik; Rated Voltage: 16VDC; Published Date: August 2019; Capacitance Tolerance: +/-20%; Dissipation Factor: =<10%; Height: 1.25mm +/-0.20mm; Mounting Technology: SMD; Size: 0805; Capacitance: 4.7uF
footprint WCAP-CSGP_0805_H=1.25mm
pins: 1, 2

## 885012107014
designator C?, comment 10uF, 16V
WCAP-CSGP General Purpose Ceramic Capacitors, size 0805, 10uF, +/-20%, 16VDC; Part Number: 885012107014; Isolation Resistance: >=0.005GOhm; Ceramic Type: X5R; Technical Reference: X5R0805106M016DFCT10000; ComponentLink1Description: Manufacturer; ComponentLink1URL: http://www.we-online.de; ComponentLink2Description: Datasheet; ComponentLink2URL: https://katalog.we-online.com/pbs/datasheet/885012107014.pdf; Operating Temperature: -55 to +85degC; Packaging: Tape and Reel; Publisher: Wurth Elektronik; Rated Voltage: 16VDC; Published Date: August 2019; Capacitance Tolerance: +/-20%; Dissipation Factor: =<10%; Height: 1.25mm +/-0.20mm; Mounting Technology: SMD; Size: 0805; Capacitance: 10uF
footprint WCAP-CSGP_0805_H=1.25mm
pins: 1, 2

## 885012107015
designator C?, comment 1uF, 25V
WCAP-CSGP General Purpose Ceramic Capacitors, size 0805, 1uF, +/-20%, 25VDC; Part Number: 885012107015; Isolation Resistance: >=0.5GOhm; Ceramic Type: X5R; Technical Reference: X5R0805105M025DFCT10000; ComponentLink1Description: Manufacturer; ComponentLink1URL: http://www.we-online.de; ComponentLink2Description: Datasheet; ComponentLink2URL: https://katalog.we-online.com/pbs/datasheet/885012107015.pdf; Operating Temperature: -55 to +85degC; Packaging: Tape and Reel; Publisher: Wurth Elektronik; Rated Voltage: 25VDC; Published Date: August 2019; Capacitance Tolerance: +/-20%; Dissipation Factor: =<5%; Height: 1.25mm +/-0.10mm; Mounting Technology: SMD; Size: 0805; Capacitance: 1uF
footprint WCAP-CSGP_0805_H=1.25mm
pins: 1, 2

## 885012107016
designator C?, comment 2.2uF, 25V
WCAP-CSGP General Purpose Ceramic Capacitors, size 0805, 2.2uF, +/-20%, 25VDC; Part Number: 885012107016; Isolation Resistance: >=0.05GOhm; Ceramic Type: X5R; Technical Reference: X5R0805225M025DFCT10000; ComponentLink1Description: Manufacturer; ComponentLink1URL: http://www.we-online.de; ComponentLink2Description: Datasheet; ComponentLink2URL: https://katalog.we-online.com/pbs/datasheet/885012107016.pdf; Operating Temperature: -55 to +85degC; Packaging: Tape and Reel; Publisher: Wurth Elektronik; Rated Voltage: 25VDC; Published Date: August 2019; Capacitance Tolerance: +/-20%; Dissipation Factor: =<10%; Height: 1.25mm +/-0.20mm; Mounting Technology: SMD; Size: 0805; Capacitance: 2.2uF
footprint WCAP-CSGP_0805_H=1.25mm
pins: 1, 2

## 885012107017
designator C?, comment 3.3uF, 25V
WCAP-CSGP General Purpose Ceramic Capacitors, size 0805, 3.3uF, +/-20%, 25VDC; Part Number: 885012107017; Isolation Resistance: >=0.03GOhm; Ceramic Type: X5R; Technical Reference: X5R0805335M025DFCT10000; ComponentLink1Description: Manufacturer; ComponentLink1URL: http://www.we-online.de; ComponentLink2Description: Datasheet; ComponentLink2URL: https://katalog.we-online.com/pbs/datasheet/885012107017.pdf; Operating Temperature: -55 to +85degC; Packaging: Tape and Reel; Publisher: Wurth Elektronik; Rated Voltage: 25VDC; Published Date: August 2019; Capacitance Tolerance: +/-20%; Dissipation Factor: =<10%; Height: 1.25mm +/-0.20mm; Mounting Technology: SMD; Size: 0805; Capacitance: 3.3uF
footprint WCAP-CSGP_0805_H=1.25mm
pins: 1, 2

## 885012107018
designator C?, comment 4.7uF, 25V
WCAP-CSGP General Purpose Ceramic Capacitors, size 0805, 4.7uF, +/-20%, 25VDC; Part Number: 885012107018; Isolation Resistance: >=0.02GOhm; Ceramic Type: X5R; Technical Reference: X5R0805475M025DFCT10000; ComponentLink1Description: Manufacturer; ComponentLink1URL: http://www.we-online.de; ComponentLink2Description: Datasheet; ComponentLink2URL: https://katalog.we-online.com/pbs/datasheet/885012107018.pdf; Operating Temperature: -55 to +85degC; Packaging: Tape and Reel; Publisher: Wurth Elektronik; Rated Voltage: 25VDC; Published Date: August 2019; Capacitance Tolerance: +/-20%; Dissipation Factor: =<10%; Height: 1.25mm +/-0.20mm; Mounting Technology: SMD; Size: 0805; Capacitance: 4.7uF
footprint WCAP-CSGP_0805_H=1.25mm
pins: 1, 2

## 885012207001
designator C?, comment 2.2uF, 6.3V
WCAP-CSGP General Purpose Ceramic Capacitors, size 0805, 2.2uF, +/-10%, 6.3VDC; Part Number: 885012207001; Isolation Resistance: >=0.05GOhm; Ceramic Type: X7R; Technical Reference: X7R0805225K6R3DFCT10000; ComponentLink1Description: Manufacturer; ComponentLink1URL: http://www.we-online.de; ComponentLink2Description: Datasheet; ComponentLink2URL: https://katalog.we-online.com/pbs/datasheet/885012207001.pdf; Operating Temperature: -55 to +125degC; Packaging: Tape and Reel; Publisher: Wurth Elektronik; Rated Voltage: 6.3VDC; Published Date: August 2019; Capacitance Tolerance: +/-10%; Dissipation Factor: =<10%; Height: 1.25mm +/-0.20mm; Mounting Technology: SMD; Size: 0805; Capacitance: 2.2uF
footprint WCAP-CSGP_0805_H=1.25mm
pins: 1, 2

## 885012207002
designator C?, comment 4.7uF, 6.3V
WCAP-CSGP General Purpose Ceramic Capacitors, size 0805, 4.7uF, +/-10%, 6.3VDC; Part Number: 885012207002; Isolation Resistance: >=0.02GOhm; Ceramic Type: X7R; Technical Reference: X7R0805475K6R3DFCT10000; ComponentLink1Description: Manufacturer; ComponentLink1URL: http://www.we-online.de; ComponentLink2Description: Datasheet; ComponentLink2URL: https://katalog.we-online.com/pbs/datasheet/885012207002.pdf; Operating Temperature: -55 to +125degC; Packaging: Tape and Reel; Publisher: Wurth Elektronik; Rated Voltage: 6.3VDC; Published Date: August 2019; Capacitance Tolerance: +/-10%; Dissipation Factor: =<10%; Height: 1.25mm +/-0.10mm; Mounting Technology: SMD; Size: 0805; Capacitance: 4.7uF
footprint WCAP-CSGP_0805_H=1.25mm
pins: 1, 2

## 885012207003
designator C?, comment 10uF, 6.3V
WCAP-CSGP General Purpose Ceramic Capacitors, size 0805, 10uF, +/-10%, 6.3VDC; Part Number: 885012207003; Isolation Resistance: >=0.01GOhm; Ceramic Type: X7R; Technical Reference: X7R0805106K6R3DFCT10000; ComponentLink1Description: Manufacturer; ComponentLink1URL: http://www.we-online.de; ComponentLink2Description: Datasheet; ComponentLink2URL: https://katalog.we-online.com/pbs/datasheet/885012207003.pdf; Operating Temperature: -55 to +125degC; Packaging: Tape and Reel; Publisher: Wurth Elektronik; Rated Voltage: 6.3VDC; Published Date: August 2019; Capacitance Tolerance: +/-10%; Dissipation Factor: =<10%; Height: 1.25mm +0.15/-0.05mm; Mounting Technology: SMD; Size: 0805; Capacitance: 10uF
footprint WCAP-CSGP_0805_H=1.25mm
pins: 1, 2

## 885012207004
designator C?, comment 100pF, 10V
WCAP-CSGP General Purpose Ceramic Capacitors, size 0805, 100pF, +/-10%, 10VDC; Part Number: 885012207004; Isolation Resistance: >=10GOhm; Ceramic Type: X7R; Technical Reference: X7R0805101K010DFCT10000; ComponentLink1Description: Manufacturer; ComponentLink1URL: http://www.we-online.de; ComponentLink2Description: Datasheet; ComponentLink2URL: https://katalog.we-online.com/pbs/datasheet/885012207004.pdf; Operating Temperature: -55 to +125degC; Packaging: Tape and Reel; Publisher: Wurth Elektronik; Rated Voltage: 10VDC; Published Date: August 2019; Capacitance Tolerance: +/-10%; Dissipation Factor: =<5%; Height: 0.8mm +/-0.10mm; Mounting Technology: SMD; Size: 0805; Capacitance: 100pF
footprint WCAP-CSGP_0805_H=0.8mm_Wave
footprint WCAP-CSGP_0805_H=0.8mm_Reflow
pins: 1, 2

## 885012207005
designator C?, comment 220pF, 10V
WCAP-CSGP General Purpose Ceramic Capacitors, size 0805, 220pF, +/-10%, 10VDC; Part Number: 885012207005; Isolation Resistance: >=10GOhm; Ceramic Type: X7R; Technical Reference: X7R0805221K010DFCT10000; ComponentLink1Description: Manufacturer; ComponentLink1URL: http://www.we-online.de; ComponentLink2Description: Datasheet; ComponentLink2URL: https://katalog.we-online.com/pbs/datasheet/885012207005.pdf; Operating Temperature: -55 to +125degC; Packaging: Tape and Reel; Publisher: Wurth Elektronik; Rated Voltage: 10VDC; Published Date: August 2019; Capacitance Tolerance: +/-10%; Dissipation Factor: =<5%; Height: 0.8mm +/-0.10mm; Mounting Technology: SMD; Size: 0805; Capacitance: 220pF
footprint WCAP-CSGP_0805_H=0.8mm_Wave
footprint WCAP-CSGP_0805_H=0.8mm_Reflow
pins: 1, 2

## 885012207006
designator C?, comment 470pF, 10V
WCAP-CSGP General Purpose Ceramic Capacitors, size 0805, 470pF, +/-10%, 10VDC; Part Number: 885012207006; Isolation Resistance: >=10GOhm; Ceramic Type: X7R; Technical Reference: X7R0805471K010DFCT10000; ComponentLink1Description: Manufacturer; ComponentLink1URL: http://www.we-online.de; ComponentLink2Description: Datasheet; ComponentLink2URL: https://katalog.we-online.com/pbs/datasheet/885012207006.pdf; Operating Temperature: -55 to +125degC; Packaging: Tape and Reel; Publisher: Wurth Elektronik; Rated Voltage: 10VDC; Published Date: August 2019; Capacitance Tolerance: +/-10%; Dissipation Factor: =<5%; Height: 0.8mm +/-0.10mm; Mounting Technology: SMD; Size: 0805; Capacitance: 470pF
footprint WCAP-CSGP_0805_H=0.8mm_Wave
footprint WCAP-CSGP_0805_H=0.8mm_Reflow
pins: 1, 2

## 885012207007
designator C?, comment 1nF, 10V
WCAP-CSGP General Purpose Ceramic Capacitors, size 0805, 1nF, +/-10%, 10VDC; Part Number: 885012207007; Isolation Resistance: >=10GOhm; Ceramic Type: X7R; Technical Reference: X7R0805102K010DFCT10000; ComponentLink1Description: Manufacturer; ComponentLink1URL: http://www.we-online.de; ComponentLink2Description: Datasheet; ComponentLink2URL: https://katalog.we-online.com/pbs/datasheet/885012207007.pdf; Operating Temperature: -55 to +125degC; Packaging: Tape and Reel; Publisher: Wurth Elektronik; Rated Voltage: 10VDC; Published Date: August 2019; Capacitance Tolerance: +/-10%; Dissipation Factor: =<5%; Height: 0.8mm +/-0.10mm; Mounting Technology: SMD; Size: 0805; Capacitance: 1nF
footprint WCAP-CSGP_0805_H=0.8mm_Wave
footprint WCAP-CSGP_0805_H=0.8mm_Reflow
pins: 1, 2

## 885012207008
designator C?, comment 1.5nF, 10V
WCAP-CSGP General Purpose Ceramic Capacitors, size 0805, 1.5nF, +/-10%, 10VDC; Part Number: 885012207008; Isolation Resistance: >=10GOhm; Ceramic Type: X7R; Technical Reference: X7R0805152K010DFCT10000; ComponentLink1Description: Manufacturer; ComponentLink1URL: http://www.we-online.de; ComponentLink2Description: Datasheet; ComponentLink2URL: https://katalog.we-online.com/pbs/datasheet/885012207008.pdf; Operating Temperature: -55 to +125degC; Packaging: Tape and Reel; Publisher: Wurth Elektronik; Rated Voltage: 10VDC; Published Date: August 2019; Capacitance Tolerance: +/-10%; Dissipation Factor: =<5%; Height: 0.8mm +/-0.10mm; Mounting Technology: SMD; Size: 0805; Capacitance: 1.5nF
footprint WCAP-CSGP_0805_H=0.8mm_Wave
footprint WCAP-CSGP_0805_H=0.8mm_Reflow
pins: 1, 2

## 885012207009
designator C?, comment 2.2nF, 10V
WCAP-CSGP General Purpose Ceramic Capacitors, size 0805, 2.2nF, +/-10%, 10VDC; Part Number: 885012207009; Isolation Resistance: >=10GOhm; Ceramic Type: X7R; Technical Reference: X7R0805222K010DFCT10000; ComponentLink1Description: Manufacturer; ComponentLink1URL: http://www.we-online.de; ComponentLink2Description: Datasheet; ComponentLink2URL: https://katalog.we-online.com/pbs/datasheet/885012207009.pdf; Operating Temperature: -55 to +125degC; Packaging: Tape and Reel; Publisher: Wurth Elektronik; Rated Voltage: 10VDC; Published Date: August 2019; Capacitance Tolerance: +/-10%; Dissipation Factor: =<5%; Height: 0.8mm +/-0.10mm; Mounting Technology: SMD; Size: 0805; Capacitance: 2.2nF
footprint WCAP-CSGP_0805_H=0.8mm_Wave
footprint WCAP-CSGP_0805_H=0.8mm_Reflow
pins: 1, 2